# EAGLE library part BQ2000TSN (library texas_ffmc)
CHARGE MANAGEMENT IC
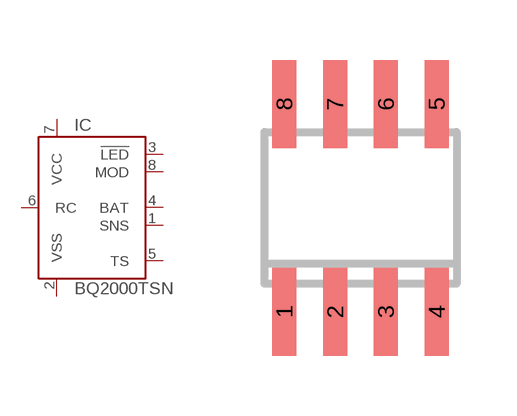
[diagram p12: symbol with the pads of SO-08; footprint SO-08]

Designator prefix IC

## BQ2000TSN (MF: TEXAS INSTRUMENT CONNECTORS; MPN: BQ2000TSN-B5; OC_FARNELL: 1212295; OC_NEWARK: 74C7508)  [SO-08]
1  SNS  in
2  VSS  pwr
3  !LED  out
4  BAT  in
5  TS  in
6  RC  in
7  VCC  in
8  MOD  out

## Footprint SO-08 (pad centres in mm)
D (R-PDSO-G8) Plastic Small Outline Package Source: http://focus.ti.com/lit/ds/symlink/sn65als176.pdf
smd 0.6 x 2.2: 1 -1.905,-2.6; 2 -0.635,-2.6; 3 0.635,-2.6; 4 1.905,-2.6; 5 1.905,2.6; 6 0.635,2.6; 7 -0.635,2.6; 8 -1.905,2.6